# Altium footprint library ESC.PcbLib: 44 footprints (part 1 of 3)
Each footprint in its own frame and in the unit in brackets; x right, y up, seen from the top. Pads: shape width x height; smd on the part's side, far side on the other; paste and mask are expansions set on the pad; w line width, h text height; cw(c..) or ccw(c..) is an arc to the next point about the centre after c.
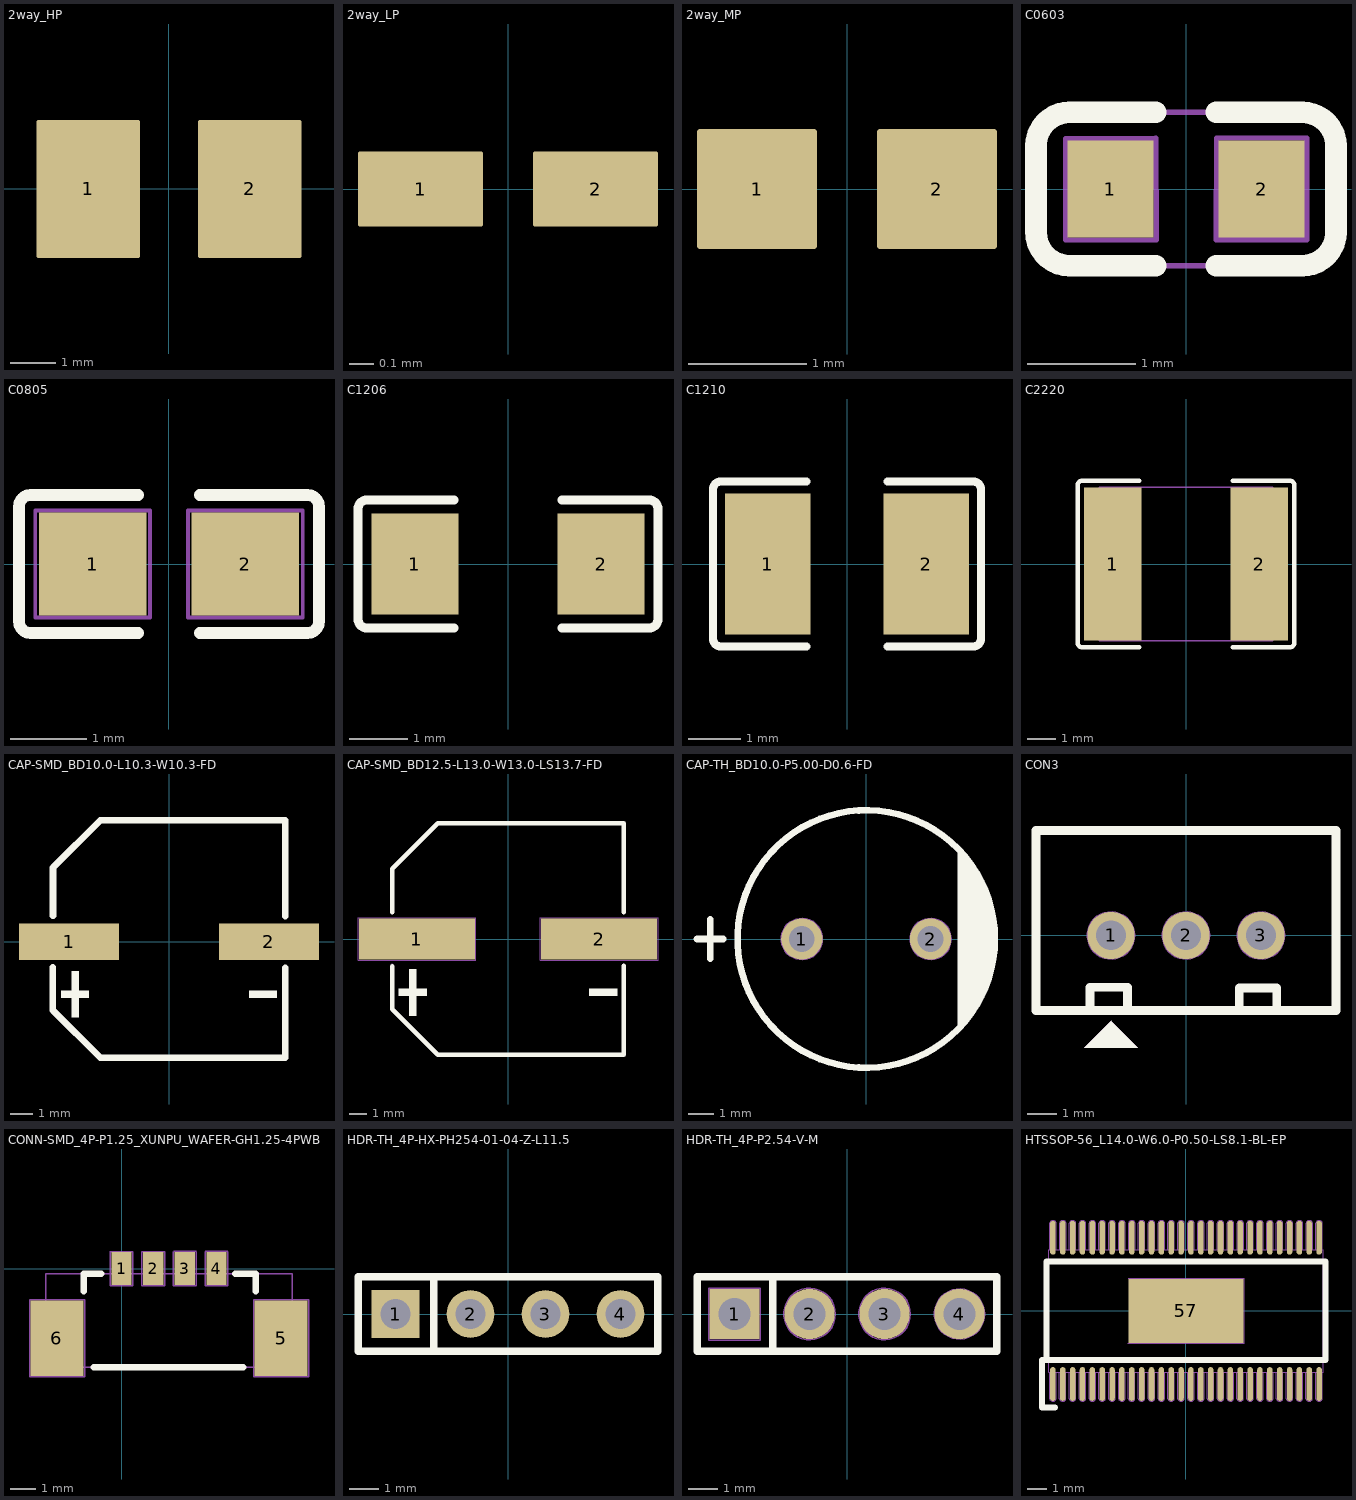
[diagram p0: the footprints below, top view; thin cyan lines are the x and y axes]

## 2way_HP [mil] "2 way high power power net tie junction"
height 1
pads (2):
  rrect5% 90x120 smd paste-100: 1(-70,0) 2(70,0)

## 2way_LP [mil] "2 way low power net tie junction"
height 1
pads (2):
  rrect5% 20x12 smd paste-100: 1(-14,0) 2(14,0)

## 2way_MP [mil] "2 way medium power net tie junction"
height 1
pads (2):
  rrect5% 40x40 smd paste-100: 1(-30,0) 2(30,0)

## C0603 [mm] "cap 0603"
height 0.85
pads (2):
  rect 0.8x0.9 smd paste+0 mask+0.051: 1(-0.7,0) 2(0.7,0)
Top Overlay:
  lines w0.2: -0.28,-0.71 -1.08,-0.71 cw(c-1.08,-0.4) -1.39,-0.4 -1.39,0.4 cw(c-1.08,0.4) -1.08,0.71 -0.28,0.71 ; 0.28,-0.71 1.08,-0.71 ; 0.28,0.71 1.08,0.71 ; 1.08,-0.71 ccw(c1.08,-0.4) 1.39,-0.4 1.39,0.4 ccw(c1.08,0.4) 1.08,0.71
Mechanical 2:
  lines w0.05: 1.08,-0.71 ccw(c1.08,-0.4) 1.39,-0.4 1.39,0.4 ccw(c1.08,0.4) 1.08,0.71 ; 1.08,-0.71 0.28,-0.71 -0.28,-0.71 -1.08,-0.71 cw(c-1.08,-0.4) -1.39,-0.4 -1.39,0.4 cw(c-1.08,0.4) -1.08,0.71 -0.28,0.71 0.28,0.71 1.08,0.71 ; -1.117,-0.47 -0.277,-0.473 -0.279,0.471 -1.114,0.468 -1.117,-0.47 ; 0.28,-0.468 1.119,-0.472 1.118,0.472 0.283,0.469 0.28,-0.468
3D body "User Library-C0603-2.sldprt": height 0.8, standoff 0, extent -0.81,-0.396 0.79,0.404

## C0805 [mm]
pads (2):
  rect 1.41x1.35 smd paste-100 mask+0.05: 1(-1,0)
  rect 1.41x1.35 smd paste-100 mask+0.051: 2(1,0)
Top Overlay:
  lines w0.152: -0.401,-0.904 -1.811,-0.904 cw(c-1.811,-0.751) -1.964,-0.751 -1.964,0.751 cw(c-1.811,0.751) -1.811,0.904 -0.401,0.904 ; 0.401,-0.904 1.811,-0.904 ccw(c1.811,-0.751) 1.964,-0.751 1.964,0.751 ccw(c1.811,0.751) 1.811,0.904 0.401,0.904
Top Paste:
  region: 1.705,0.64 1.705,-0.64 1.655,-0.69 0.505,-0.69 0.455,-0.64 0.45,-0.23 0.9,-0.23 0.9,0.22 0.46,0.22 0.455,0.64 0.505,0.69 1.655,0.69
  region: -1.705,-0.64 -1.705,0.64 -1.655,0.69 -0.505,0.69 -0.455,0.64 -0.45,0.23 -0.9,0.23 -0.9,-0.22 -0.46,-0.22 -0.455,-0.64 -0.505,-0.69 -1.655,-0.69
Mechanical 2:
  lines w0.05: -0.401,-0.904 -1.811,-0.904 cw(c-1.811,-0.751) -1.964,-0.751 -1.964,0.751 cw(c-1.811,0.751) -1.811,0.904 -0.401,0.904 ; 0.401,-0.904 1.811,-0.904 ccw(c1.811,-0.751) 1.964,-0.751 1.964,0.751 ccw(c1.811,0.751) 1.811,0.904 0.401,0.904 ; -1.75,-0.7 -0.25,-0.7 -0.25,0.7 -1.75,0.7 -1.75,-0.7 ; 0.25,-0.7 1.75,-0.7 1.75,0.7 0.25,0.7 0.25,-0.7
3D body "CAP_0805_SAM.step": height 0.71, standoff 0, extent -1.304,-0.673 0.804,0.673

## C1206 [mm] "1206"
height 0.86
pads (2):
  rect 1.485x1.728 smd paste-100 mask+0.051: 1(-1.593,0) 2(1.593,0)
Top Overlay:
  lines w0.152: -0.926,-1.093 -2.411,-1.093 cw(c-2.411,-0.94) -2.564,-0.94 -2.564,0.94 cw(c-2.411,0.94) -2.411,1.093 -0.926,1.093 ; 0.926,-1.093 2.411,-1.093 ccw(c2.411,-0.94) 2.564,-0.94 2.564,0.94 ccw(c2.411,0.94) 2.411,1.093 0.926,1.093
Top Paste:
  region: 0.85,-0.764 0.85,-0.394 0.95,-0.294 1.255,-0.294 1.355,-0.194 1.355,0.194 1.255,0.294 0.95,0.294 0.85,0.394 0.85,0.764 0.95,0.864 2.235,0.864 2.335,0.764 2.335,-0.764 2.235,-0.864 0.95,-0.864
  region: -0.85,-0.764 -0.85,-0.394 -0.95,-0.294 -1.255,-0.294 -1.355,-0.194 -1.355,0.194 -1.255,0.294 -0.95,0.294 -0.85,0.394 -0.85,0.764 -0.95,0.864 -2.235,0.864 -2.335,0.764 -2.335,-0.764 -2.235,-0.864 -0.95,-0.864
3D body "User Library-User Library-1206_Cap.step": height 1.25, standoff 0, extent -2.22,-0.8 2.32,0.8

## C1210 [mm] "1210"
height 0.15
pads (2):
  rect 1.635x2.7 smd paste-100 mask+0.051: 1(-1.517,0) 2(1.517,0)
Top Overlay:
  lines w0.152: -0.776,-1.579 -2.411,-1.579 cw(c-2.411,-1.426) -2.564,-1.426 -2.564,1.426 cw(c-2.411,1.426) -2.411,1.579 -0.776,1.579 ; 0.776,-1.579 2.411,-1.579 ccw(c2.411,-1.426) 2.564,-1.426 2.564,1.426 ccw(c2.411,1.426) 2.411,1.579 0.776,1.579
Top Paste:
  region: -0.7,-1.25 -0.7,-0.559 -0.8,-0.459 -1.156,-0.459 -1.256,-0.359 -1.256,0.359 -1.156,0.459 -0.8,0.459 -0.7,0.559 -0.7,1.25 -0.8,1.35 -2.235,1.35 -2.335,1.25 -2.335,-1.25 -2.235,-1.35 -0.8,-1.35
  region: 0.7,-1.25 0.7,-0.559 0.8,-0.459 1.156,-0.459 1.256,-0.359 1.256,0.359 1.156,0.459 0.8,0.459 0.7,0.559 0.7,1.25 0.8,1.35 2.235,1.35 2.335,1.25 2.335,-1.25 2.235,-1.35 0.8,-1.35
3D body "C1210C821KGRACTU.STEP": height 1.46, standoff 0.01, extent -1.6,-1.25 1.6,1.25

## C2220 [mm] "2220"
pads (2):
  rect 2.01x5.4 smd paste-100 mask+0.051: 1(-2.58,0) 2(2.58,0)
Top Overlay:
  lines w0.152: -1.651,-2.929 -3.661,-2.929 cw(c-3.661,-2.776) -3.814,-2.776 -3.814,2.776 cw(c-3.661,2.776) -3.661,2.929 -1.651,2.929 ; 1.651,-2.929 3.661,-2.929 ccw(c3.661,-2.776) 3.814,-2.776 3.814,2.776 ccw(c3.661,2.776) 3.661,2.929 1.651,2.929
Top Paste:
  region: -1.575,-2.6 -1.575,-1.018 -1.675,-0.918 -2.158,-0.918 -2.258,-0.818 -2.258,0.818 -2.158,0.918 -1.675,0.918 -1.575,1.018 -1.575,2.6 -1.675,2.7 -3.485,2.7 -3.585,2.6 -3.585,-2.6 -3.485,-2.7 -1.675,-2.7
  region: 1.575,-2.6 1.575,-1.018 1.675,-0.918 2.158,-0.918 2.258,-0.818 2.258,0.818 2.158,0.918 1.675,0.918 1.575,1.018 1.575,2.6 1.675,2.7 3.485,2.7 3.585,2.6 3.585,-2.6 3.485,-2.7 1.675,-2.7
Mechanical 2:
  lines w0.05: -3.05,-2.7 3.05,-2.7 3.05,2.7 -3.05,2.7 -3.05,-2.7
3D body "CCS_CCSTDNOS_2220_L6.65W5.4T2.7B1.05.step": height 0, standoff -2.7, extent -3.325,-2.7 3.325,2.7

## CAP-SMD_BD10.0-L10.3-W10.3-FD [mm] "SMD,D10xL12.5mm"
height 10.3
pads (2):
  rect 4.5x1.65 smd paste+0 mask+0.051: 1(-4.5,0) 2(4.5,0)
Top Overlay:
  region: 4.841,-2.214 4.841,-2.523 3.605,-2.523 3.605,-2.214
  region: -4.841,-2.214 -4.841,-2.523 -3.605,-2.523 -3.605,-2.214
  region: -4.378,-1.339 -4.378,-3.399 -4.068,-3.399 -4.068,-1.339
  lines w0.3: -5.226,-1.148 -5.226,-3.09 -3.09,-5.226 5.226,-5.226 5.226,-1.181 ; -5.224,1.161 -5.224,3.33 -3.087,5.467 5.229,5.467 5.229,1.158
Mechanical 2:
  lines w0.05: -5.226,-1.09 -5.226,-3.09 -3.09,-5.226 5.226,-5.226 5.226,-1.138 ; -5.224,1.093 -5.224,3.33 -3.087,5.467 5.229,5.467 5.229,1.093
Mechanical 15:
  region: 4.841,0.155 4.841,-0.155 3.605,-0.155 3.605,0.155
  region: -4.841,0.155 -4.841,-0.155 -3.605,-0.155 -3.605,0.155
3D body "EEEFK2A330L.STEP": height 10.3, standoff 0.1, extent -5.601,-4.979 6.099,5.321

## CAP-SMD_BD12.5-L13.0-W13.0-LS13.7-FD [mm] "SMD,D12.5xL13.5mm"
height 13.5
pads (2):
  rect 6.5x2.3 smd paste+0 mask+0.051: 1(-5.1,0) 2(5.1,0)
Top Overlay:
  region: -5.525,-1.69 -5.525,-4.29 -5.135,-4.29 -5.135,-1.69
  region: -6.11,-2.795 -6.11,-3.185 -4.55,-3.185 -4.55,-2.795
  region: 6.11,-2.795 6.11,-3.185 4.55,-3.185 4.55,-2.795
  lines w0.254: -6.477,-1.518 -6.477,-3.937 -3.937,-6.477 6.477,-6.477 6.477,-1.485 ; -6.477,1.486 -6.477,3.937 -3.937,6.477 6.477,6.477 6.477,1.501
Mechanical 2:
  lines w0.05: -6.477,-1.381 -6.477,-3.937 -3.937,-6.477 6.477,-6.477 6.477,-1.381 ; -6.477,1.397 -6.477,3.937 -3.937,6.477 6.477,6.477 6.477,1.381 ; -8.4,-1.2 -8.4,1.2 -1.8,1.2 -1.8,-1.2 -8.4,-1.2 ; 1.8,-1.2 1.8,1.2 8.4,1.2 8.4,-1.2 1.8,-1.2
Mechanical 15:
  region: -6.11,0.195 -6.11,-0.195 -4.55,-0.195 -4.55,0.195
  region: 6.11,0.195 6.11,-0.195 4.55,-0.195 4.55,0.195
3D body "EDH107M100A9RAA.step": height 14.21, standoff -0.3, extent -7.2,-6.65 7.4,6.55

## CAP-TH_BD10.0-P5.00-D0.6-FD [mm] "Through Hole,D10xL15mm"
height 15
pads (2):
  round 1.6 hole 1 paste-2539.97 mask+0.05: 1(-2.5,0) 2(2.5,0)
Top Overlay:
  circle w0.254: c0,0 r5
  region: 3.556,3.556 3.556,-3.556 4.318,-2.54 4.826,-1.016 5.08,0.508 4.826,1.524
  lines w0.254: -6.572,0 -5.556,0 ; -6.064,-0.762 -6.064,0.762
Mechanical 2:
  circle w0.05: c0,0 r5
  circle w0.05: c-2.5,0 r0.802
  circle w0.05: c2.5,0 r0.8
3D body "100ZLH100MEFC10X20--3DModel-STEP-269445.STEP": height 20, standoff -19, extent -4.937,-4.927 5.044,5.061

## CON3 [mm] "CON 3"
height 5.08
pads (3):
  round 1.6 hole 1 mask+0.1: 1(-2.54,0) 2(0,0) 3(2.54,0)
Top Overlay:
  region: -3.442,-3.797 -1.638,-3.797 -2.527,-2.908 -2.527,-2.883
  lines w0.3: -3.251,-2.515 -3.251,-1.753 -1.981,-1.753 -1.981,-2.515 ; 1.803,-2.54 1.803,-1.778 3.073,-1.778 3.073,-2.54 ; -5.08,-2.54 -5.08,3.556 5.08,3.556 5.08,0 5.08,-2.54 -5.08,-2.54
Mechanical 2:
  circle w0.05: c-2.54,0 r0.8
  circle w0.05: c2.54,0 r0.8
  circle w0.05: c0,0 r0.8
  region: -3.442,-3.797 -1.638,-3.797 -2.527,-2.908 -2.527,-2.883
  lines w0.05: -3.251,-2.515 -3.251,-1.753 -1.981,-1.753 -1.981,-2.515 ; 1.803,-2.54 1.803,-1.778 3.073,-1.778 3.073,-2.54 ; -5.08,-2.54 -5.08,3.556 5.08,3.556 5.08,0 5.08,-2.54 -5.08,-2.54
  text "1" at -2.7,-0.5 h1
  text "3" at 2.2,-0.5 h1
3D body "User Library-PW10_3.step": height 7, standoff -3.3, extent -5,-2.286 5,3.414

## CONN-SMD_4P-P1.25_XUNPU_WAFER-GH1.25-4PWB [mm] "4P PicoBlade(MX 1.25) 1x4P Tin -40℃~+105℃ White 1.25mm 125V 4 1A 1 Surface Mount,Vertical SMD,P=1.25mm Headers, Male Pins RoHS"
height 4.7
pads (6):
  rect 0.8x1.3 smd paste+0.102 mask+0.051: 1(0,0) 2(1.25,0) 3(2.5,0) 4(3.75,0)
  rect 2.1x3 smd paste+0.102 mask+0.051: 5(6.3,-2.75) 6(-2.55,-2.75)
Top Overlay:
  lines w0.254: -1.5,-0.9 -1.5,-0.2 -0.8,-0.2 ; -1.1,-3.9 4.8,-3.9 ; 4.5,-0.2 5.3,-0.2 5.3,-0.9
Mechanical 2:
  lines w0.05: -0.459,0.675 0.451,0.675 ; -0.45,0.675 -0.45,-0.675 0.45,-0.675 0.45,0.675 ; 0.799,0.675 1.7,0.675 1.7,-0.675 0.8,-0.675 0.8,0.675 ; 2.05,0.675 2.05,-0.675 2.95,-0.675 2.95,0.675 ; 2.057,0.683 2.945,0.69 ; 3.3,0.675 3.3,-0.675 4.2,-0.675 4.2,0.675 ; 3.3,0.683 4.196,0.683 ; -3.625,-4.275 -3.625,-1.225 -1.45,-1.225 -1.45,-4.275 -3.625,-4.275 ; -3,-3.9 6.75,-3.9 6.75,-0.2 -3,-0.2 -3,-3.9 ; 5.225,-4.275 5.225,-1.225 7.4,-1.225 7.4,-4.275 5.225,-4.275
3D body "0533980471.stp": height 4.7, standoff 0, extent -3.206,-3.865 6.944,0.335

## HDR-TH_4P-HX-PH254-01-04-Z-L11.5 [mm] "Through Hole,P=2.54mm"
pads (4):
  rect 1.62x1.62 hole 1.02 paste-2539.97 mask+0.051: 1(-3.81,0)
  round 1.62 hole 1.02 paste-2539.97 mask+0.051: 2(-1.27,0) 3(1.27,0) 4(3.81,0)
Top Overlay:
  lines w0.254: -2.516,-1.27 -2.516,1.27 ; -2.516,1.27 -5.08,1.27 -5.08,-1.27 5.08,-1.27 5.08,1.27 -2.516,1.27

## HDR-TH_4P-P2.54-V-M [mm] "Through Hole,P=2.54mm"
pads (4):
  rect 1.7x1.7 hole 1.1 paste-2539.97 mask+0.051: 1(-3.81,0)
  round 1.7 hole 1.1 paste-2539.97 mask+0.051: 2(-1.27,0) 3(1.27,0) 4(3.81,0)
Top Overlay:
  lines w0.254: -2.516,-1.27 -2.516,1.27 ; -2.516,1.27 5.08,1.27 5.08,-1.27 -5.08,-1.27 -5.08,1.27 -2.516,1.27
Mechanical 2:
  circle w0.05: c-1.27,0 r0.873
  circle w0.05: c1.27,0 r0.873
  circle w0.05: c3.81,0 r0.851
  lines w0.05: -2.516,-1.27 -2.516,1.27 ; -2.516,1.27 5.08,1.27 5.08,-1.27 -5.08,-1.27 -5.08,1.27 -2.516,1.27 ; -4.685,-0.881 -4.685,0.873 -2.933,0.873 -2.933,-0.881 -4.685,-0.881
3D body "User Library-1x4 TH Pitch 2_54mm.STEP": height 9.2, standoff -3.5, extent -5.08,-1.22 5.08,1.32

## HTSSOP-56_L14.0-W6.0-P0.50-LS8.1-BL-EP [mm] "HTSSOP-56-EP-6mm"
height 1.2
pads (57):
  oval 0.28x1.715 smd paste+0 mask+0.051: 1(-6.75,-3.708) 2(-6.25,-3.708) 3(-5.75,-3.708) 4(-5.25,-3.708) 5(-4.75,-3.708) 6(-4.25,-3.708) 7(-3.75,-3.708) 8(-3.25,-3.708) 9(-2.75,-3.708) 10(-2.25,-3.708) 11(-1.75,-3.708) 12(-1.25,-3.708) 13(-0.75,-3.708) 14(-0.25,-3.708) 15(0.25,-3.708) 16(0.75,-3.708) 17(1.25,-3.708) 18(1.75,-3.708) 19(2.25,-3.708) 20(2.75,-3.708) 21(3.25,-3.708) 22(3.75,-3.708) 23(4.25,-3.708) 24(4.75,-3.708) 25(5.25,-3.708) 26(5.75,-3.708) 27(6.25,-3.708) 28(6.75,-3.708) 29(6.75,3.708) 30(6.25,3.708) 31(5.75,3.708) 32(5.25,3.708) 33(4.75,3.708) 34(4.25,3.708) 35(3.75,3.708) 36(3.25,3.708) 37(2.75,3.708) 38(2.25,3.708) 39(1.75,3.708) 40(1.25,3.708) 41(0.75,3.708) 42(0.25,3.708) 43(-0.25,3.708) 44(-0.75,3.708) 45(-1.25,3.708) 46(-1.75,3.708) 47(-2.25,3.708) 48(-2.75,3.708) 49(-3.25,3.708) 50(-3.75,3.708) 51(-4.25,3.708) 52(-4.75,3.708) 53(-5.25,3.708) 54(-5.75,3.708) 55(-6.25,3.708) 56(-6.75,3.708)
  rect 5.825x3.235 smd paste+0 mask+0.051: 57(0,0)
Top Overlay:
  lines w0.3: -6.65,-4.9 -7.3,-4.9 -7.3,-2.5 -7.076,-2.5 ; -7.076,-2.5 7.076,-2.5 7.076,2.5 -7.076,2.5 -7.076,-2.5
Mechanical 2:
  drawing of 233 lines, arcs and shapes, not listed
3D body "DCA0056A.stp": height 1.13, standoff 0, extent -6.95,-4.3 7.05,3.8